# Altium footprint library Footprint.PcbLib: 122 footprints (part 3 of 8)
Each footprint in its own frame and in the unit in brackets; x right, y up, seen from the top. Pads: shape width x height; smd on the part's side, far side on the other; paste and mask are expansions set on the pad; w line width, h text height; cw(c..) or ccw(c..) is an arc to the next point about the centre after c.
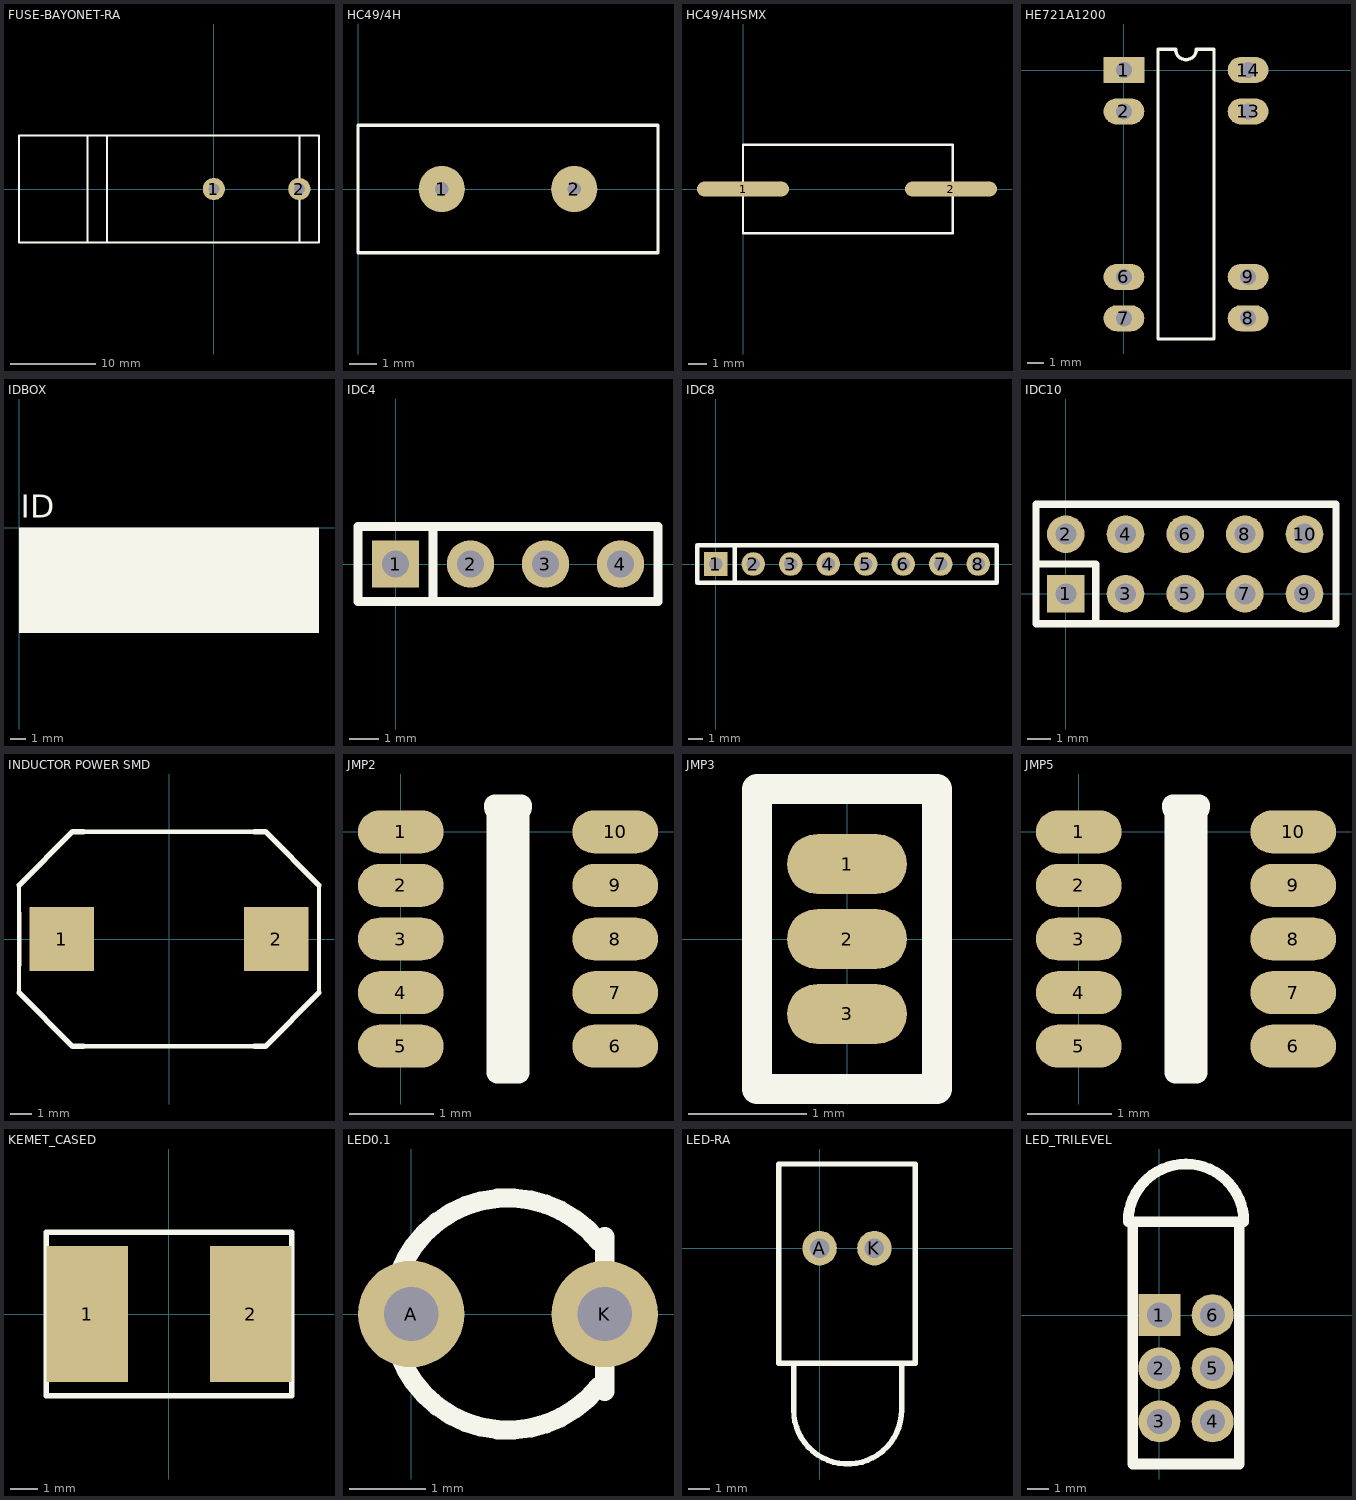
[diagram p2: the footprints below, top view; thin cyan lines are the x and y axes]

## FUSE-BAYONET-RA [mm]
pads (2):
  round 2.6 hole 1.3: 1(0,0) 2(10,0)
TopOverlay:
  lines w0.254: -14.8,-6.25 -14.8,6.25 ; -12.5,-6.25 -12.5,6.25 ; 10,-6.15 10,6.25 ; -22.8,-6.25 -22.8,6.25 12.3,6.25 12.3,-6.25 -22.8,-6.25

## HC49/4H [mm]
pads (2):
  round 1.7 hole 0.5: 1(3.085,0) 2(7.965,0)
TopOverlay:
  lines w0.127: 0,-2.35 0,2.35 10.35,2.35 11.05,2.35 11.05,-2.35 10.3,-2.35 0,-2.35

## HC49/4HSMX [mm]
pads (2):
  oval 5x0.8 smd: 1(0,0) 2(11.3,0)
TopOverlay:
  lines w0.127: 0,-2.4 10.3,-2.4 11.4,-2.4 11.4,2.4 10.3,2.4 0,2.4 0,-2.4

## HE721A1200 [mm] "12V SPST-NO Reed Relay"
height 7
pads (8):
  rect 2.5x1.6 hole 1: 1(0,0)
  oval 2.5x1.6 hole 1: 2(0,-2.54) 6(0,-12.7) 7(0,-15.24) 8(7.62,-15.24) 9(7.62,-12.7) 13(7.62,-2.54) 14(7.62,0)
TopOverlay:
  lines w0.2: 2.085,-16.51 2.085,1.27 3.175,1.27 ccw(c3.81,1.27) 4.445,1.27 5.535,1.27 5.535,-16.51 2.085,-16.51

## IDBOX [mm] "Infobox"
TopOverlay:
  rectangle: 0,-7 19.95,0
  text "ID" at 0.1,0.65 h1.52

## IDC4 [mm]
pads (4):
  rect 1.6x1.6 hole 0.9: 1(0,0)
  round 1.6 hole 0.9: 2(2.54,0) 3(5.08,0) 4(7.62,0)
TopOverlay:
  lines w0.305: 1.27,-1.27 1.27,1.27 ; -1.27,-1.27 8.89,-1.27 8.89,1.27 -1.27,1.27 -1.27,-1.27

## IDC8 [mm]
pads (8):
  rect 1.6x1.6 hole 0.9: 1(0,0)
  round 1.6 hole 0.9: 2(2.54,0) 3(5.08,0) 4(7.62,0) 5(10.16,0) 6(12.7,0) 7(15.24,0) 8(17.78,0)
TopOverlay:
  lines w0.305: 1.27,-1.27 1.27,1.27 ; -1.27,-1.27 19.05,-1.27 19.05,1.27 -1.27,1.27 -1.27,-1.27

## IDC10 [mm]
pads (10):
  rect 1.6x1.6 hole 0.9: 1(0,0)
  round 1.6 hole 0.9: 2(0,2.54) 3(2.54,0) 4(2.54,2.54) 5(5.08,0) 6(5.08,2.54) 7(7.62,0) 8(7.62,2.54) 9(10.16,0) 10(10.16,2.54)
TopOverlay:
  lines w0.305: -1.27,1.27 1.27,1.27 1.27,-1.27 ; -1.27,-1.27 -1.27,3.81 11.5,3.81 11.5,-1.27 -1.27,-1.27

## INDUCTOR POWER SMD [mm]
pads (2):
  rect 3x3 smd: 1(-5,0) 2(5,0)
TopOverlay:
  lines w0.2: -6.992,-2.5 -6.985,0 -6.992,2.5 ; -4,-5 4,-5 ; -4,5 4,5 ; 6.992,-2.5 6.992,2.5
  lines w0.254: -6.992,-2.5 -4.492,-5 -4,-5 ; -6.992,2.5 -4.492,5 -4,5 ; 4,-5 4.492,-5 6.992,-2.5 ; 4,5 4.492,5 6.992,2.5

## JMP2 [mil]
pads (10):
  oval 40x20 smd: 1(0,0) 2(0,-25) 3(0,-50) 4(0,-75) 5(0,-100) 6(100,-100) 7(100,-75) 8(100,-50) 9(100,-25) 10(100,0)
TopOverlay:
  lines w10: 43.75,12.5 ccw(c50,12.5) 56.25,12.5 45,12.5 45,-112.5 55,-112.5 55,12.5 43.75,12.5

## JMP3 [mil]
pads (3):
  oval 40x20 smd: 1(0,25) 2(0,0) 3(0,-25)
TopOverlay:
  lines w10: -30,-50 30,-50 30,50 -30,50 -30,-50

## JMP5 [mil]
pads (10):
  oval 40x20 smd: 1(0,0) 2(0,-25) 3(0,-50) 4(0,-75) 5(0,-100) 6(100,-100) 7(100,-75) 8(100,-50) 9(100,-25) 10(100,0)
TopOverlay:
  lines w10: 43.75,12.5 ccw(c50,12.5) 56.25,12.5 45,12.5 45,-112.5 55,-112.5 55,12.5 43.75,12.5

## KEMET_CASED [mm]
height 3
pads (2):
  rect 3x5 smd: 1(-3,0) 2(3,0)
TopOverlay:
  lines w0.2: -4.5,-3 4.5,-3 4.5,3 -4.5,3 -4.5,0 -4.5,-3

## LED0.1 [mil]
pads (2):
  round 55 hole 28: A(0,0) K(100,0)
TopOverlay:
  lines w10: 96.85,-37.48 cw(c50,0) 96.85,37.48 ; 100,-40 100,40

## LED-RA [mm]
pads (2):
  round 1.6 hole 0.9: A(0,0) K(2.54,0)
TopOverlay:
  lines w0.254: -1.2,-5.33 -1.2,-7.5 ccw(c1.3,-7.5) 3.8,-7.5 3.8,-5.33 ; -1.89,-5.33 -1.89,3.9 4.43,3.9 4.43,-5.33 -1.89,-5.33

## LED_TRILEVEL [mm]
pads (6):
  rect 2x2 hole 1.2: 1(0,0)
  round 2 hole 1.2: 2(0,-2.54) 3(0,-5.08) 4(2.54,-5.08) 5(2.54,-2.54) 6(2.54,0)
TopOverlay:
  lines w0.508: -1.49,4.45 cw(c1.27,4.45) 4.03,4.45 ; -1.27,-7.11 3.81,-7.11 3.81,4.45 -1.27,4.45 -1.27,-7.11